# Altium footprint library Fiducial.PcbLib: 14 footprints
Each footprint in its own frame and in the unit in brackets; x right, y up, seen from the top. Pads: shape width x height; smd on the part's side, far side on the other; paste and mask are expansions set on the pad; w line width, h text height; cw(c..) or ccw(c..) is an arc to the next point about the centre after c.
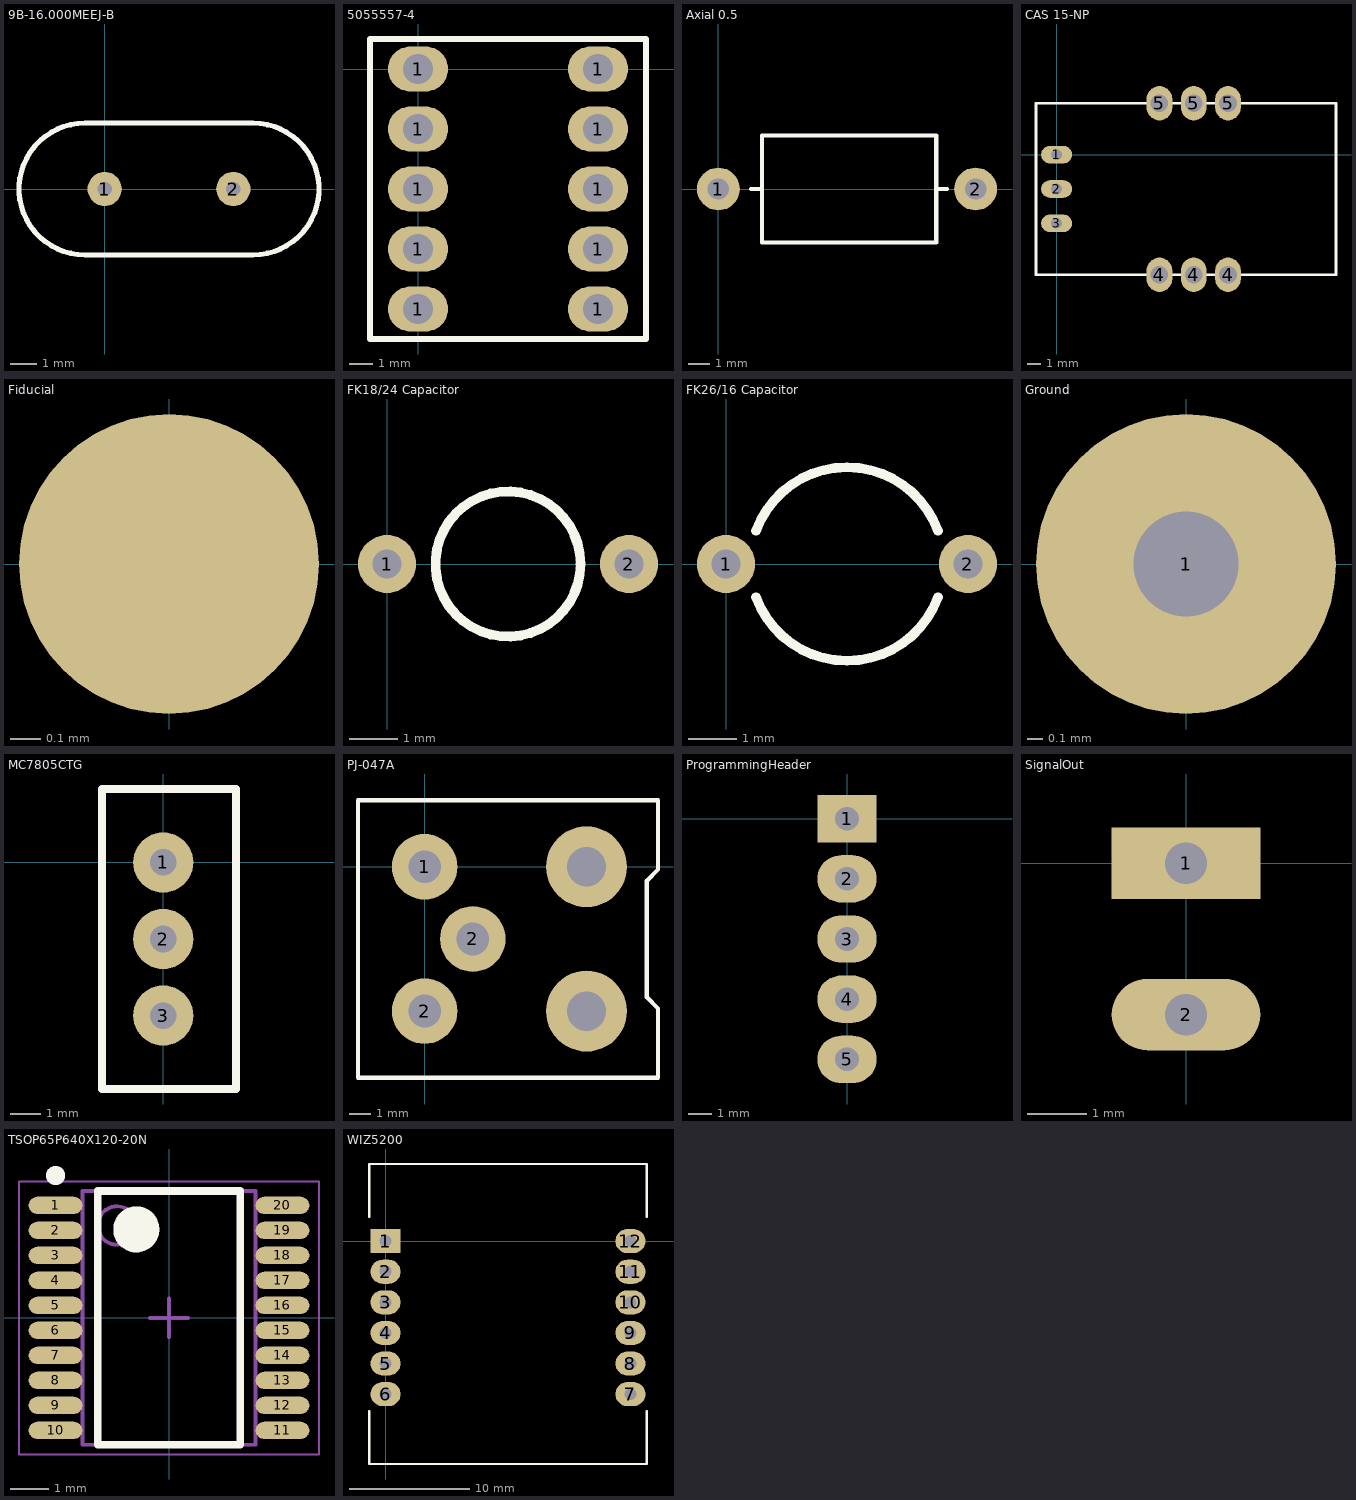
[diagram p0: the footprints below, top view; thin cyan lines are the x and y axes]

## 9B-16.000MEEJ-B [mm]
pads (2):
  round 1.3 hole 0.55: 1(0,0) 2(4.88,0)
Top Overlay:
  lines w0.2: -0.75,-2.5 cw(c-0.75,0) -0.75,2.5 5.63,2.5 cw(c5.63,0) 5.63,-2.5 -0.75,-2.5

## 5055557-4 [mm]
pads (10):
  oval 2.54x1.905 hole 1.27: 1(0,-10.16) 1(0,-7.62) 1(0,-5.08) 1(0,-2.54) 1(0,0) 1(7.62,-10.16) 1(7.62,-7.62) 1(7.62,-5.08) 1(7.62,-2.54) 1(7.62,0)
Top Overlay:
  lines w0.254: -2.032,-11.43 9.652,-11.43 9.652,1.27 3.175,1.27 -2.032,1.27 -2.032,-11.43

## Axial 0.5 [mm]
pads (2):
  round 2 hole 1: 1(0,0) 2(12,0)
Top Overlay:
  lines w0.2: 1.524,0 2.032,0 ; 10.668,0 10.16,0 ; 2.032,0 2.032,2.5 10.16,2.5 10.16,0 ; 2.032,0 2.032,-2.5 10.16,-2.5 10.16,0

## CAS 15-NP [mm]
pads (9):
  oval 2.3x1.3 hole 0.8: 1(0,0) 2(0,-2.54) 3(0,-5.08)
  oval 1.9x2.54 hole 1.3: 4(7.62,-8.89) 4(10.16,-8.89) 4(12.7,-8.89) 5(7.62,3.81) 5(10.16,3.81) 5(12.7,3.81)
Top Overlay:
  lines w0.2: -1.524,-8.89 -1.524,3.81 20.7,3.81 20.7,-8.89 -1.524,-8.89

## Fiducial [mm] "Fiducial"
height 1
pads (1):
  round 1 smd paste-1 mask+0.5: ""(0,0)
3D body: height 0.5, standoff -0.5, extent -0.495,-0.498 0.5,0.498

## FK18/24 Capacitor [mm]
pads (2):
  round 1.2 hole 0.6: 1(0,0) 2(5,0)
Top Overlay:
  circle w0.2: c2.5,0 r1.5

## FK26/16 Capacitor [mm]
pads (2):
  round 1.2 hole 0.6: 1(0,0) 2(5,0)
Top Overlay:
  lines w0.2: 0.621,-0.684 ccw(c2.5,0) 4.379,-0.684 ; 0.621,0.684 cw(c2.5,0) 4.379,0.684

## Ground [mm]
pads (1):
  round 2 hole 0.7: 1(0,0)

## MC7805CTG [mm]
pads (3):
  round 2 hole 0.88: 1(0,0) 2(0,-2.54) 3(0,-5.08)
Top Overlay:
  lines w0.254: -2.03,-7.52 2.415,-7.52 2.415,2.44 -2.03,2.44 -2.03,-7.52

## PJ-047A [mm]
pads (5):
  round 3 hole 1.5: 1(0,0) 2(0,-6.6) 2(2.2,-3.3)
  round 3.7 hole 1.8: ""(7.4,-6.6) ""(7.4,0)
Top Overlay:
  lines w0.2: -3.048,-9.652 -3.048,3.048 2.502,3.048 10.668,3.048 10.668,-0.127 10.16,-0.635 10.16,-5.969 10.668,-6.477 10.668,-9.652 -3.048,-9.652

## ProgrammingHeader [mm]
pads (5):
  rect 2.5x2 hole 1: 1(0,0)
  oval 2.5x2 hole 1: 2(0,-2.54) 3(0,-5.08) 4(0,-7.62) 5(0,-10.16)

## SignalOut [mm]
pads (2):
  rect 2.5x1.2 hole 0.7: 1(0,0)
  oval 2.5x1.2 hole 0.7: 2(0,-2.54)

## TSOP65P640X120-20N [mm] "TSOP, 20-Leads, Body 6.50x4.40mm, Pitch 0.65mm, IPC Medium Density"
height 1.2
pads (20):
  oval 1.4x0.45 smd mask+0.075: 1(-2.95,2.925) 2(-2.95,2.275) 3(-2.95,1.625) 4(-2.95,0.975) 5(-2.95,0.325) 6(-2.95,-0.325) 7(-2.95,-0.975) 8(-2.95,-1.625) 9(-2.95,-2.275) 10(-2.95,-2.925) 11(2.95,-2.925) 12(2.95,-2.275) 13(2.95,-1.625) 14(2.95,-0.975) 15(2.95,-0.325) 16(2.95,0.325) 17(2.95,0.975) 18(2.95,1.625) 19(2.95,2.275) 20(2.95,2.925)
Top Overlay:
  circle w0.25: c-2.95,3.7 r0.125
  circle w0.6: c-0.85,2.3 r0.3
  lines w0.2: -1.85,-3.3 -1.85,3.3 1.85,3.3 1.85,-3.3 -1.85,-3.3
3D:
  circle w0.1: c-1.35,2.4 r0.5
  lines w0.1: -2.25,-3.3 -2.25,3.3 2.25,3.3 2.25,-3.3 -2.25,-3.3
Courtyard:
  lines w0.05: -3.9,-3.55 -3.9,3.55 3.9,3.55 3.9,-3.55 -3.9,-3.55
  lines w0.1: -0.5,0 0.5,0 ; 0,-0.5 0,0.5
3D body: height 1.2, standoff 0.15, extent -2.25,-3.3 2.25,3.3

## WIZ5200 [mm]
pads (12):
  rect 2.5x2 hole 1: 1(0,0)
  oval 2.5x2 hole 1: 2(0,-2.54) 3(0,-5.08) 4(0,-7.62) 5(0,-10.16) 6(0,-12.7) 7(20.32,-12.7) 8(20.32,-10.16) 9(20.32,-7.62) 10(20.32,-5.08) 11(20.32,-2.54) 12(20.32,0)
Top Overlay:
  lines w0.2: -1.34,-14.132 -1.34,-18.5 21.66,-18.5 21.66,-14.132 ; -1.34,2.032 -1.34,6.4 21.66,6.4 21.66,2.032